# Altium footprint library led_lcd.pcblib: 13 footprints
Each footprint in its own frame and in the unit in brackets; x right, y up, seen from the top. Pads: shape width x height; smd on the part's side, far side on the other; paste and mask are expansions set on the pad; w line width, h text height; cw(c..) or ccw(c..) is an arc to the next point about the centre after c.
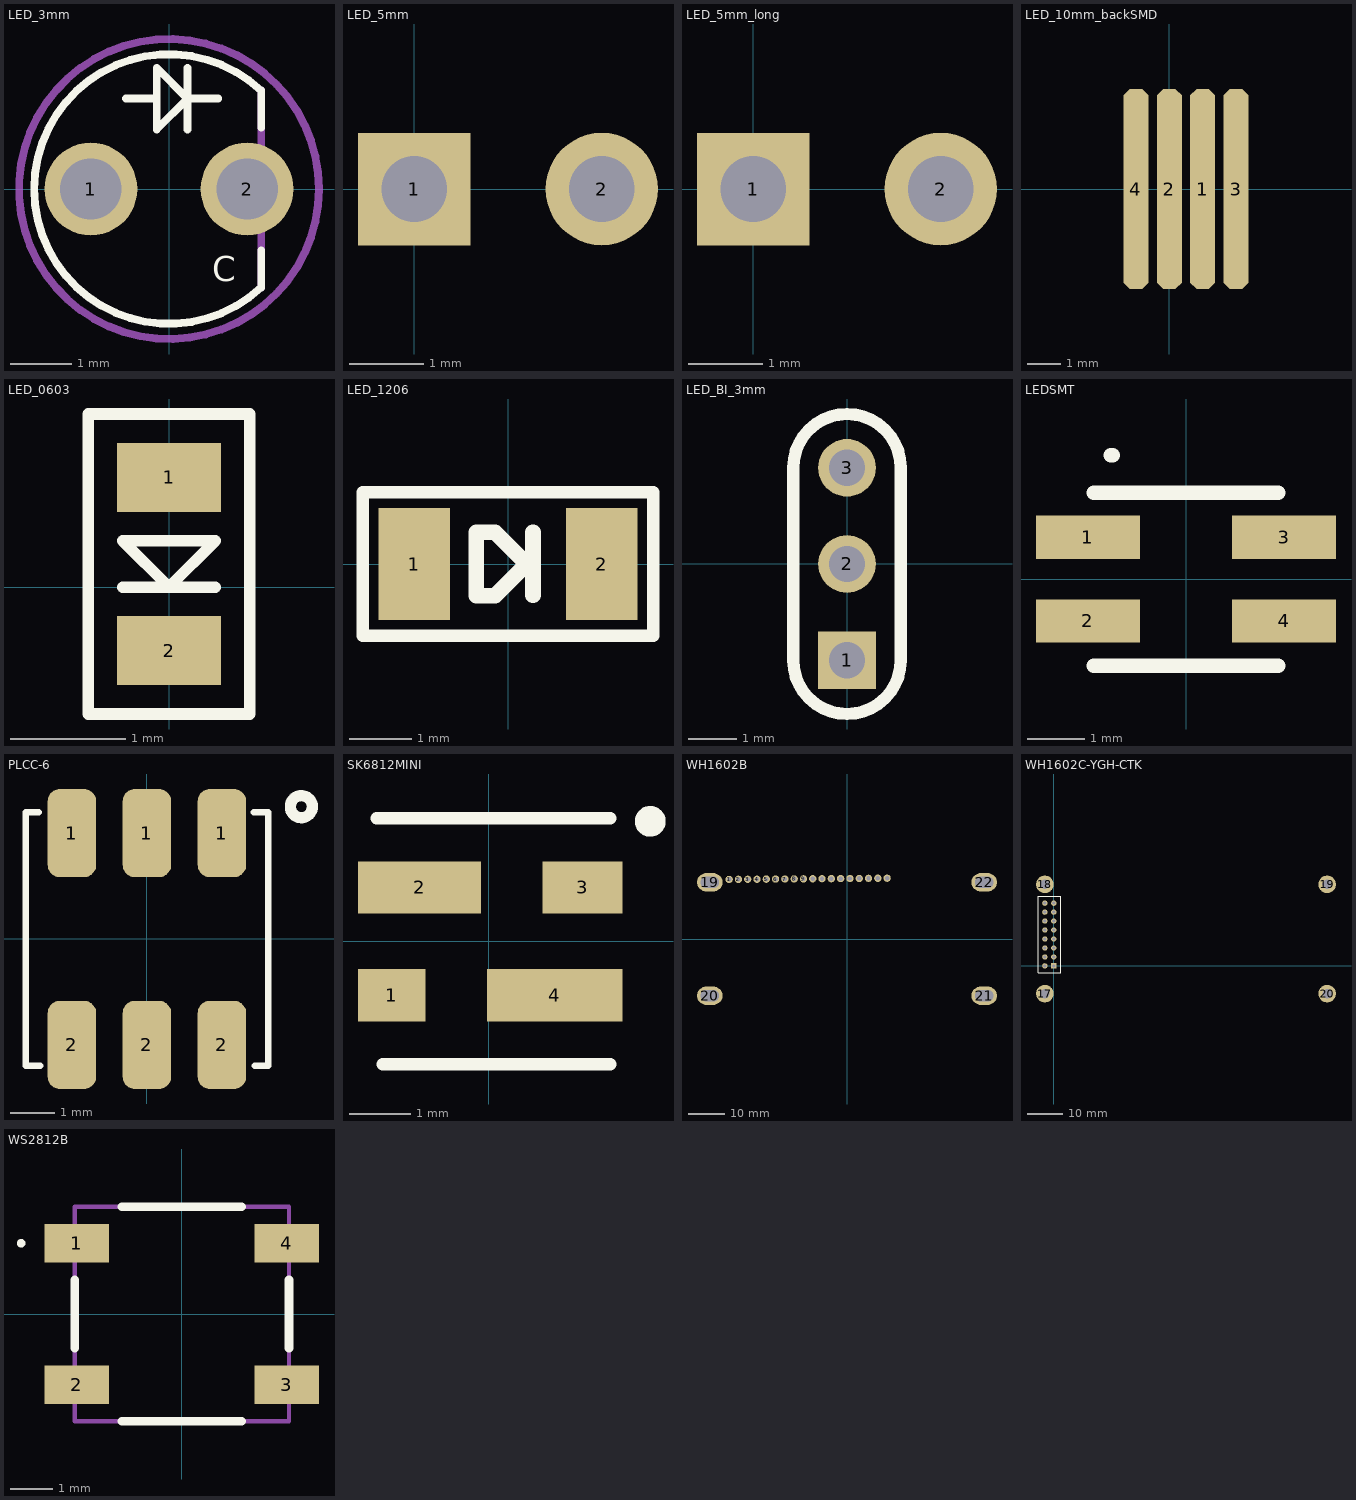
[diagram p0: the footprints below, top view; thin cyan lines are the x and y axes]

## LED_3mm [mm]
pads (2):
  round 1.508 hole 1: 1(-1.27,0) 2(1.27,0)
Top Overlay:
  lines w0.127: -0.7,1.47 -0.2,1.47 ; 0.3,0.97 0.3,1.47 ; 0.3,1.97 0.3,1.47 ; 0.8,1.47 0.3,1.47 ; 1.496,-1.604 cw(c0,0) 1.496,1.604 ; 1.5,-1.6 1.5,-1 ; 1.5,1 1.5,1.6 ; -0.2,1.47 -0.2,1.97 0.3,1.47 ; -0.2,1.47 -0.2,0.97 0.3,1.47
  text "C" at 0.7,-1.5 h0.41
Plata3D:
  lines w0.127: 1.5,-1.6 1.5,1.6
Board3D:
  circle w0.127: c0,0 r2.44
3D body "151031SS04000--3DModel-STEP-418109.STEP": height 11.37, standoff -4.58, extent -1.925,-1.925 1.645,1.925

## LED_5mm [mil]
height 472.44
pads (2):
  rect 60x60 hole 35: 1(0,0)
  round 60 hole 35: 2(100,0)
3D body "LED-short.stp": height 519.68, standoff -66.93, extent -64.95,-114.17 147.64,114.18

## LED_5mm_long [mil]
height 551.18
pads (2):
  rect 60x60 hole 35: 1(0,0)
  round 60 hole 35: 2(100,0)
3D body "LED-long.stp": height 566.93, standoff -66.93, extent -64.95,-114.17 147.64,114.18

## LED_10mm_backSMD [mm]
height 12
pads (4):
  oct 0.75x6 smd: 1(1,0) 2(0,0) 3(2,0) 4(-1,0)
3D body "led.stp": height 5.96, standoff -4.84, extent -4.875,-2.825 5.925,18.175

## LED_0603 [mm]
pads (2):
  rect 0.9x0.6 smd: 1(0,0.95) 2(0,-0.55)
Top Overlay:
  lines w0.1: -0.4,0 0.4,0 ; -0.7,-1.1 -0.7,1.5 0.7,1.5 0.7,-1.1 -0.7,-1.1 ; -0.4,0.4 0,0 0.4,0.4 -0.4,0.4
3D body "LSM0603XXXV.STEP": height 0.55, standoff -0.03, extent -0.4,-0.6 0.4,1

## LED_1206 [mm]
height 1.524
pads (2):
  rect 1.15x1.8 smd: 1(-1.5,0) 2(1.5,0)
Top Overlay:
  lines w0.2: -0.508,-0.508 -0.508,0.508 ; -2.325,-1.15 2.325,-1.15 2.325,1.15 -2.325,1.15 -2.325,-1.15
  lines w0.254: 0.4,-0.5 0.4,0.508 ; -0.508,-0.508 -0.208,-0.508 0.3,0 -0.208,0.508 -0.508,0.508 -0.508,-0.508
3D body "User Library-LED 1206 BLUE.step": height 1.1, standoff 0, extent -1.6,-0.8 1.6,0.8

## LED_BI_3mm [mm]
pads (3):
  rect 1.2x1.2 hole 0.75: 1(0,-2)
  round 1.2 hole 0.75: 2(0,0) 3(0,2)
Top Overlay:
  lines w0.254: -1.118,-2 ccw(c0,-2) 1.118,-2 1.118,2 ccw(c0,2) -1.118,2 -1.118,-2
3D body "User Library-LED RG.step": height 9.43, standoff -4, extent -2,-2.25 2,2.25

## LEDSMT [mm]
pads (4):
  rect 1.8x0.75 smd: 1(-1.7,0.725) 2(-1.7,-0.725) 3(1.7,0.725) 4(1.7,-0.725)
Top Overlay:
  lines w0.254: -1.6,-1.5 0,-1.5 1.6,-1.5 ; -1.6,1.5 0,1.5 1.6,1.5 ; -1.3,2.15 -1.275,2.15
3D body "User Library-Everlight 67-21SRC-TR8.STEP": height 1.86, standoff 0, extent -1.75,-1.4 1.75,1.4

## PLCC-6 [mm] "SMD LED"
pads (6):
  rrect50% 1.1x2 smd: 1(-1.7,2.4) 1(0,2.4) 1(1.7,2.4) 2(-1.7,-2.4) 2(0,-2.4) 2(1.7,-2.4)
Top Overlay:
  circle w0.254: c3.5,3 r0.25
  lines w0.15: -2.45,2.875 -2.75,2.875 -2.75,-2.875 -2.425,-2.875 ; 2.425,2.875 2.75,2.875 2.75,-2.875 2.45,-2.875
3D body "User Library-OF-SMD5060RGB.step": height 2, standoff 0, extent -2.5,-2.7 2.5,2.7

## SK6812MINI [mm]
pads (4):
  rect 1.1x0.85 smd paste+0: 1(-1.575,-0.877)
  rect 2x0.85 smd paste+0: 2(-1.125,0.873)
  rect 1.3x0.85 smd paste+0: 3(1.525,0.873)
  rect 2.2x0.85 smd paste+0: 4(1.075,-0.877)
Top Overlay:
  circle w0.25: c2.625,1.948 r0.125
  lines w0.2: -1.825,1.998 1.975,1.998 ; -1.725,-2.002 1.975,-2.002
3D body: height 1, standoff 0, extent -1.8,-1.752 1.9,1.748

## WH1602B [mm] "WH1602B"
pads (22):
  round 2 hole 1.2: 1(-32.22,16.28) 2(-29.68,16.3) 3(-27.14,16.32) 4(-24.6,16.34) 5(-22.06,16.36) 6(-19.52,16.38) 7(-16.98,16.4) 8(-14.44,16.42) 9(-11.9,16.44) 10(-9.36,16.46) 11(-6.82,16.48) 12(-4.28,16.5) 13(-1.74,16.52) 14(0.8,16.54) 15(3.34,16.56) 16(5.88,16.58) 17(8.42,16.6) 18(10.96,16.62)
  rrect100% 7x5 hole 3 slot 5 at 0 deg: 19(-37.5,15.5) 20(-37.5,-15.5) 21(37.5,-15.5) 22(37.5,15.5)
3D body "WH1602B.stp": height 21.52, standoff 8.31, extent -40.25,-18.25 40.25,18.25

## WH1602C-YGH-CTK [mm] "WH1602C-YGH-CTK"
pads (20):
  rect 1.5x1.5 hole 0.9: 1(0,0)
  round 1.5 hole 0.9: 2(-2.54,0) 3(0,2.54) 4(-2.54,2.54) 5(0,5.08) 6(-2.54,5.08) 7(0,7.62) 8(-2.54,7.62) 9(0,10.16) 10(-2.54,10.16) 11(0,12.7) 12(-2.54,12.7) 13(0,15.24) 14(-2.54,15.24) 15(0,17.78) 16(-2.54,17.78)
  round 5 hole 2.6: 17(-2.54,-7.88) 18(-2.54,23.12) 19(77.46,23.12) 20(77.46,-7.88)
Top Overlay:
  lines w0.254: -4.445,-1.905 -4.445,19.685 1.905,19.685 1.905,-1.905 -4.445,-1.905

## WS2812B [mm]
pads (4):
  rect 1.5x0.9 smd: 1(-2.45,1.65) 2(-2.45,-1.65) 3(2.45,-1.65) 4(2.45,1.65)
Top Overlay:
  lines w0.1: -3.8,1.65 ccw(c-3.75,1.65) -3.7,1.65 ccw(c-3.75,1.65) -3.8,1.65
  lines w0.2: -2.5,-0.8 -2.5,0.8 ; -1.4,-2.5 1.4,-2.5 ; -1.4,2.5 1.4,2.5 ; 2.5,-0.8 2.5,0.8
Plata3D:
  lines w0.1: -2.5,-2.5 2.5,-2.5 2.5,2.5 -2.5,2.5 -2.5,-2.5
3D body "WS2812B-V5.stp": height 1.6, standoff 0.03, extent -2.7,-2.5 2.7,2.5